# EAGLE library part IS61WV25616BLL (library library)
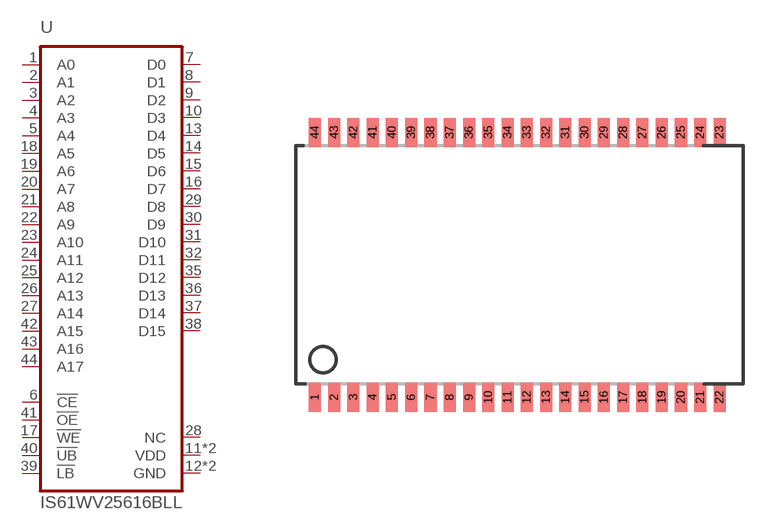
[diagram p2: symbol with the pads of TSOPII-44; footprint TSOPII-44]

Designator prefix -

## IS61WV25616BLL  [TSOPII-44]
1  A0  in
2  A1  in
3  A2  in
4  A3  in
5  A4  in
6  !CE  in
7  D0  hiz
8  D1  hiz
9  D2  hiz
10  D3  hiz
11  VDD  sup
12  GND  sup
13  D4  hiz
14  D5  hiz
15  D6  hiz
16  D7  hiz
17  !WE  in
18  A5  in
19  A6  in
20  A7  in
21  A8  in
22  A9  in
23  A10  in
24  A11  in
25  A12  in
26  A13  in
27  A14  in
28  NC  nc
29  D8  hiz
30  D9  hiz
31  D10  hiz
32  D11  hiz
33  VDD  sup
34  GND  sup
35  D12  hiz
36  D13  hiz
37  D14  hiz
38  D15  hiz
39  !LB  in
40  !UB  in
41  !OE  in
42  A15  in
43  A16  in
44  A17  in

## Footprint TSOPII-44 (pad centres in mm)
smd 0.5 x 1.2: 1 1.03,0.848; 2 1.83,0.848; 3 2.63,0.848; 4 3.43,0.848; 5 4.23,0.848; 6 5.03,0.848; 7 5.83,0.848; 8 6.63,0.848; 9 7.43,0.848; 10 8.23,0.848; 11 9.03,0.848; 12 9.83,0.848; 13 10.63,0.848; 14 11.43,0.848; 15 12.23,0.848; 16 13.03,0.848; 17 13.83,0.848; 18 14.63,0.848; 19 15.43,0.848; 20 16.23,0.848; 21 17.03,0.848; 22 17.83,0.848; 23 17.83,11.852; 24 17.03,11.852; 25 16.23,11.852; 26 15.43,11.852; 27 14.63,11.852; 28 13.83,11.852; 29 13.03,11.852; 30 12.23,11.852; 31 11.43,11.852; 32 10.63,11.852; 33 9.83,11.852; 34 9.03,11.852; 35 8.23,11.852; 36 7.43,11.852; 37 6.63,11.852; 38 5.83,11.852; 39 5.03,11.852; 40 4.23,11.852; 41 3.43,11.852; 42 2.63,11.852; 43 1.83,11.852; 44 1.03,11.852